# Altium footprint library Circular_24_Channel_Emulator.PcbLib: 1 footprints
Each footprint in its own frame and in the unit in brackets; x right, y up, seen from the top. Pads: shape width x height; smd on the part's side, far side on the other; paste and mask are expansions set on the pad; w line width, h text height; cw(c..) or ccw(c..) is an arc to the next point about the centre after c.
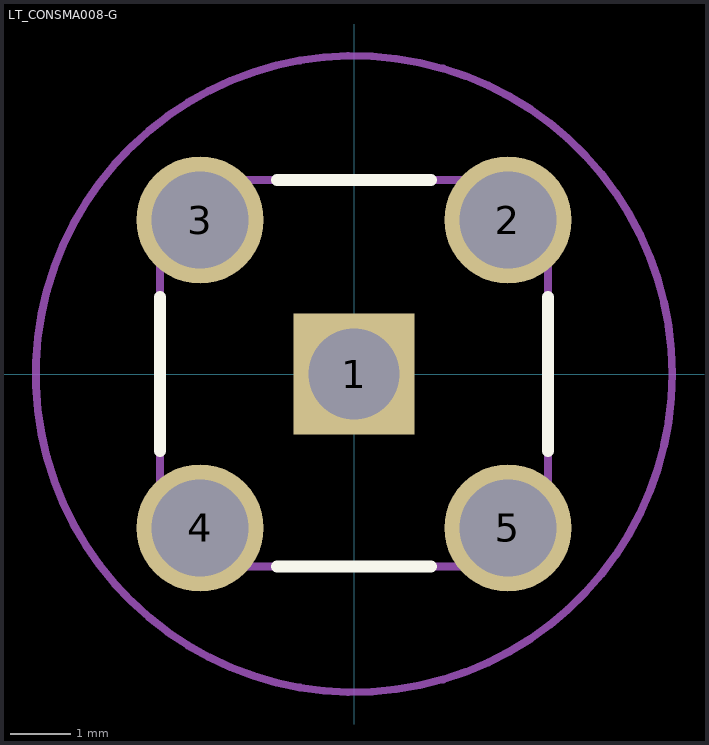
[diagram p0: the footprint, top view; thin cyan lines are the x and y axes]

## LT_CONSMA008-G [mm] "CONN SMA RCPT STR 50 OHM PCB"
height 17.68
pads (5):
  rect 2x2 hole 1.5: 1(0,0)
  round 2.1 hole 1.6: 2(2.54,2.54) 3(-2.54,2.54) 4(-2.54,-2.54) 5(2.54,-2.54)
Top Overlay:
  lines w0.203: -3.2,-1.27 -3.2,1.27 ; -1.27,-3.175 1.27,-3.175 ; -1.27,3.2 1.27,3.2 ; 3.2,-1.27 3.2,1.27
Mechanical 1:
  text "'.Designator'" at -0.711,-1.931 h1.52
Mechanical 15:
  circle w0.127: c0,0 r5.25
  circle w0.127: c0,0 r0.508
  lines w0.127: -3.2,-3.15 -3.2,3.2 3.2,3.2 3.2,-3.175 -3.175,-3.175 -3.2,-3.15
3D body "User Library-SMA-STRAIGHT-LINX.step": height 13.87, standoff -3.81, extent -3.5,-3.5 3.5,3.5